# EAGLE library part 10PIN-HEADER (library Connector-Header-Pin)
10 pin Header Pin
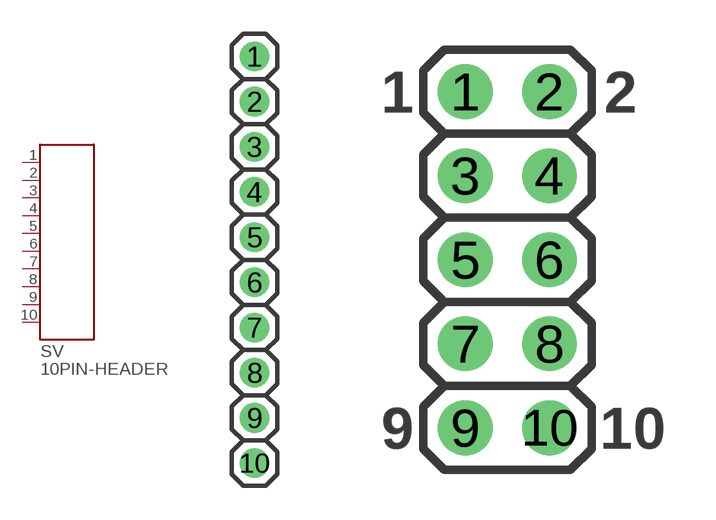
[diagram p0: symbol with the pads of 1*10(2.0PITCH); footprints 1*10(2.0PITCH), 2*5(2.54PITCH)]

Designator prefix SV

## 10PIN-HEADER-SINGLE_2PITCH  [1*10(2.0PITCH)]
1  1
2  2
3  3
4  4
5  5
6  6
7  7
8  8
9  9
10  10

## 10PIN-HEADER-DOUBLE_2.54PITCH  [2*5(2.54PITCH)]
Pads as for 1*10(2.0PITCH)

## 10PIN-HEADERSINGLE_2.54PITCH  [1*10(2.54PITCH)]
Pads as for 1*10(2.0PITCH)

## 10PIN-HEADERSINGLE-2PITCH_MOUNT  [NPPN101BFLD-RC]
Pads as for 1*10(2.0PITCH)

## 10PIN-HEADER  [XPPN101BFCN-RC]
Pads as for 1*10(2.0PITCH)

## Footprint 1*10(2.0PITCH) (pad centres in mm)
1 * 10 pin , 2.0 pitch Header Pin d0.8
drill 0.8: 1 0,9; 2 0,7; 3 0,5; 4 0,3; 5 0,1; 6 0,-1; 7 0,-3; 8 0,-5; 9 0,-7; 10 0,-9

## Footprint 2*5(2.54PITCH) (pad centres in mm)
2 * 5 pin Double Header Pin **male** (2.54mm pitch )
drill 1.1: 1 -1.27,3.81; 2 1.27,3.81; 3 -1.27,1.27; 4 1.27,1.27; 5 -1.27,-1.27; 6 1.27,-1.27; 7 -1.27,-3.81; 8 1.27,-3.81; 9 -1.27,-6.35; 10 1.27,-6.35

## Footprint 1*10(2.54PITCH) (pad centres in mm)
1 * 10 2.54mm pitch Header Pin d1.1
drill 1.1: 1 0,11.43; 2 0,8.89; 3 0,6.35; 4 0,3.81; 5 0,1.27; 6 0,-1.27; 7 0,-3.81; 8 0,-6.35; 9 0,-8.89; 10 0,-11.43

## Footprint NPPN101BFLD-RC (pad centres in mm)
NPPN101BFLD-RC 1*10 2.0mm pitch surface mount , D mounting style Store Infomation: Digi-Key http://dkc1.digikey.com/jp/digihome.html
smd 2.29 x 0.89: 1 -1.395,9; 2 1.395,7; 3 -1.395,5; 4 1.395,3; 5 -1.395,1; 6 1.395,-1; 7 -1.395,-3; 8 1.395,-5; 9 -1.395,-7; 10 1.395,-9

## Footprint XPPN101BFCN-RC (pad centres in mm)
xPPN101BFCN-RC 1*10 2.0mm pitch through-hole mounting style Store Infomation: Digi-Key http://dkc1.digikey.com/jp/digihome.html
drill 0.9: 1 0,9; 2 0,7; 3 0,5; 4 0,3; 5 0,1; 6 0,-1; 7 0,-3; 8 0,-5; 9 0,-7; 10 0,-9